# EAGLE library part HEADER-20P (library Deegou_Connector)
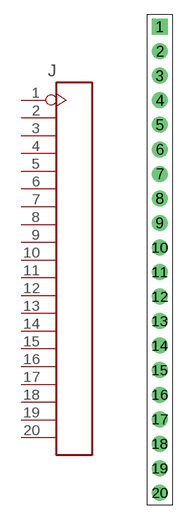
[diagram p34: symbol with the pads of 20P-2.54; footprint 20P-2.54]

Designator prefix J

## HEADER-20P-2.54  [20P-2.54]
1  P$1
2  P$2
3  P$3
4  P$4
5  P$5
6  P$6
7  P$7
8  P$8
9  P$9
10  P$10
11  P$11
12  P$12
13  P$13
14  P$14
15  P$15
16  P$16
17  P$17
18  P$18
19  P$19
20  P$20

## Footprint 20P-2.54 (pad centres in mm)
drill 0.889 pad 1.651 square: 1 0,25.4
drill 0.889 pad 1.651: 2 0,22.86; 3 0,20.32; 4 0,17.78; 5 0,15.24; 6 0,12.7; 7 0,10.16; 8 0,7.62; 9 0,5.08; 10 0,2.54; 11 0,0; 12 0,-2.54; 13 0,-5.08; 14 0,-7.62; 15 0,-10.16; 16 0,-12.7; 17 0,-15.24; 18 0,-17.78; 19 0,-20.32; 20 0,-22.86